# EAGLE library part 634008137221 (library Eagle_WR-MJ (rev23b))
WR-MJ Modular Jack SMT Horizontal Plastic 8P8C Tab Down Kind Properties Quality Class:500 Mating cycles General Information Operating Temperature:-40 up to +85 °C Compliance:RoHS Electrical Properties IR1:1.5A Working Voltage: 120 V (AC) Withstanding Voltage:1000 V (AC) Contact Resistance:20mΩ RISO:500 MΩ Material Properties Insulator MateriaL:LCP Insulator Flammability Rating:UL94 V-0 Color:Black Cover Material:Bronze Cover Plating:Nickel Contact Material:Copper Alloy Contact Plating: Selective Gold Contact Type:Stamped Packaging Properties Packaging:Tray <https://www.we-online.com/catalog/media/o60735v209%20Family_I-O_MJ-H_Plastic_Down_634008137221_pf2.jpg> Details see: https://www.we-online.com/catalog/en/MJ_SMT_HORIZONTAL_PLASTIC_8P8C_TAB_DOWN/ Updated by Yingchun,Shan 2020-01-03 2020 (C) Würth Elektronik
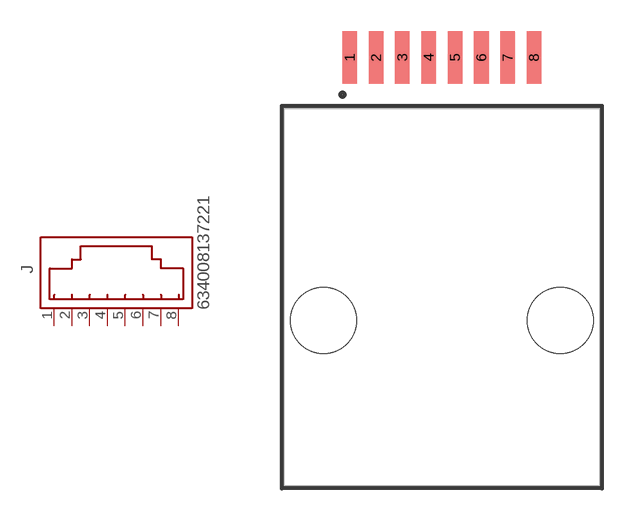
[diagram p0: symbol with the pads of 634008137221; footprint 634008137221]

Designator prefix J

## 634008137221 (DATASHEET-URL: https://www.we-online.com/redexpert/spec/634008137221?ae; MOUNT: SMT; PART-NUMBER: 634008137221; TYPE: Horizontal; VALUE: 634008137221; XPXC: 8P8C)  [634008137221]
1  8  pas
2  7  pas
3  6  pas
4  5  pas
5  4  pas
6  3  pas
7  2  pas
8  1  pas

## Footprint 634008137221 (pad centres in mm)
WR-MJ Modular Jack SMT Horizontal Plastic 8P8C Tab Down,8 Pins
smd 0.7 x 2.54: 1 -4.445,11.57; 2 -3.175,11.57; 3 -1.905,11.57; 4 -0.635,11.57; 5 0.635,11.57; 6 1.905,11.57; 7 3.175,11.57; 8 4.445,11.57
hole 3.17 at -5.715,-1.13
hole 3.17 at 5.715,-1.13